# Altium schematic symbol library MCU.SchLib: 3 symbols
Pins are listed as number, name and electrical type; pins without a type are passive.

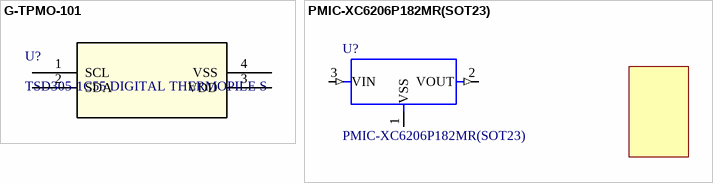
[diagram p0: symbols G-TPMO-101 to PMIC-XC6206P182MR(SOT23)]

## G-TPMO-101
designator U?, comment TSD305-1C55 DIGITAL THERMOPILE S
Temperature Sensor Digital, Local/Remote -20°C ~ 85°C 16 b TO-5; Mfr_Name: TE Connectivity; Manufacturer_Part_Number: G-TPMO-102; Copyright: Copyright (C) 2022 Ultra Librarian. All rights reserved.; RefDes: RefDes; Type: DEV
footprint IC4_G-TPMO-102_TEC
footprint G-TPMO-101
pins: 1 SCL, 2 SDA, 3 VDD (power), 4 VSS

## PMIC-XC6206P182MR(SOT23)
designator U?
310030016; MF: {'manufacturer': u'Torex'}; Value: *; Availability: Unavailable; MP: PMIC-XC6206P182MR(SOT23); Price: None; Package: None
footprint SOT-23
pins: 1 VSS (power), 2 VOUT (out), 3 VIN (in)

## SEN-18364
designator ?
Humidity Temperature Sensor 0 ~ 100% RH I²C ±3% RH 8 s Through Hole